# EAGLE library part HIGH_CURRENT_PAD (library Taylor)
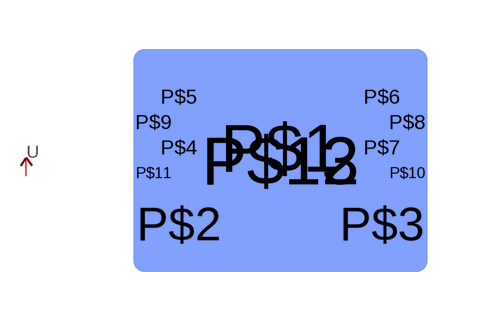
[diagram p11: symbol with the pads of HIGH_CURRENT_PAD; footprint HIGH_CURRENT_PAD]

Designator prefix -

## HIGH_CURRENT_PAD  [HIGH_CURRENT_PAD]
P$1  P$1
P$2  P$2
P$3  P$3
P$4  P$4
P$5  P$5
P$6  P$6
P$7  P$7
P$8  P$8
P$9  P$9
P$10  P$10
P$11  P$11
P$12  P$12
P$13  P$13

## Footprint HIGH_CURRENT_PAD (pad centres in mm)
drill 3.2 square: P$1 0,0
drill 1.27 square: P$2 -2.54,-1.905; P$3 2.54,-1.905
drill 0.305: P$4 -2.54,0; P$5 -2.54,1.27; P$6 2.54,1.27; P$7 2.54,0; P$8 3.175,0.635; P$9 -3.175,0.635; P$10 3.175,-0.635; P$11 -3.175,-0.635
smd 7.366 x 5.588: P$12 0,-0.318
smd 7.366 x 5.588 bottom: P$13 0,-0.318